# Altium schematic symbol library 1MaxSch.SchLib: 129 symbols
Pins are listed as number, name and electrical type; pins without a type are passive.

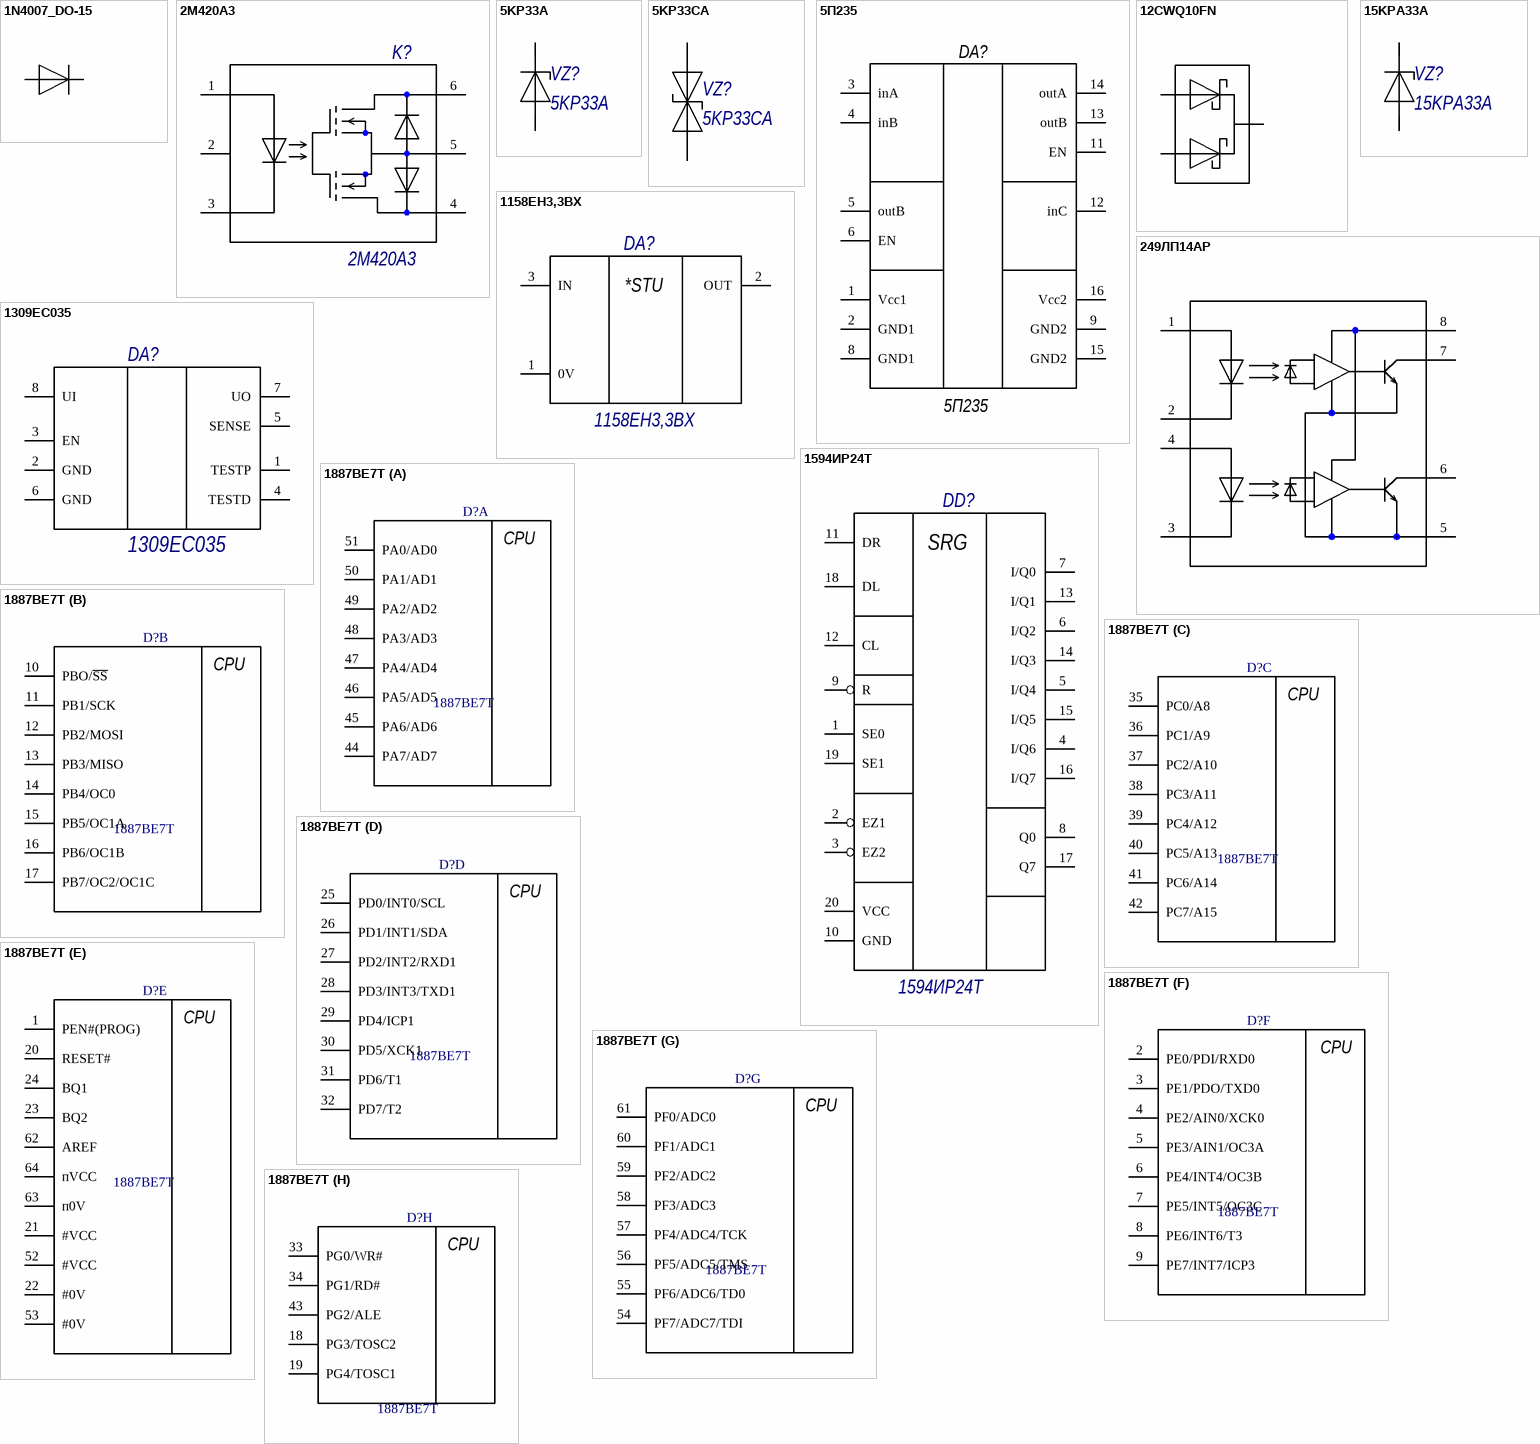
[diagram p0: symbols 1N4007_DO-15 to 1887ВЕ7Т]

## 1N4007_DO-15
designator VD?
1N4007; Alias: *
footprint DO-15
pins: 1, 2

## 2M420A3
designator K?
Оптореле 2M420A3; Manufacturer: Протон-Орел; Voltage: 90В; Current: 5А; Note: АЕЯР.432170.564 ТУ; Alias: *
footprint 2М420А3 (Герметичное МОП-реле 90В/5А)
pins: 1, 2, 3, 4, 5, 6

## 5KP33A
designator VZ?
TVS Диод однонаправленный P600B; Voltage: 36,9...40,4; Alias: *
footprint P600 (TVS_DIODE_P600B)
pins: 1, 2

## 5KP33CA
designator VZ?
TVS Диод двунаправленный P600B; Tolerance: 5%; Alias: *
footprint P600BI (TVS_DIODE_P600B)
pins: 1, 2

## 5П235
designator DA?
изолятор интерфейсов; Alias: *
footprint 4112.16-1
pins: 1 Vcc1, 2 GND1, 3 inA, 4 inB, 5 outB, 6 EN, 8 GND1, 9 GND2, 11 EN, 12 inC, 13 outB, 14 outA, 15 GND2, 16 Vcc2

## 12CWQ10FN
designator VD?  (value not drawn)
Alias: *
footprint DPAK
pins: 1, 3, 4

## 15KPA33A
designator VZ?
TVS Диод однонаправленный P600B; Alias: *
footprint P600 (TVS_DIODE_P600B)
pins: 1, 2

## 249ЛП14АР
designator DA?
многоканальные оптроны; Alias: *
footprint 249ЛП14АР (многоканальные оптроны)
pins: 1, 2, 3, 4, 5 OV, 6, 7, 8 Vcc

## 1158ЕН3,3ВХ
designator DA?
Линейные стабилизаторы с фиксированным выходным напряжением / положительной полярностиаеяр.431420.773 тУ; Alias: *
footprint КТ-93-1
pins: 1 0V, 2 OUT, 3 IN
text: *STU

## 1309EC035
designator DA?
Alias: *
footprint H02.8-1В
pins: 1 TESTP, 2 GND, 3 EN, 4 TESTD, 5 SENSE, 6 GND, 7 UO, 8 UI

## 1594ИР24Т
designator DD?
Восьмиразрядный двунаправленный сдвиговый регистр с / параллельным вводом-выводом, последовательным вводом / информации, асинхронным сбросом и тремя состояниями на / выходе; Alias: *
footprint 4153.20-6_SOW20 (Регистр сдвига)
pins: 1 SE0, 2 EZ1, 3 EZ2, 4 I/Q6, 5 I/Q4, 6 I/Q2, 7 I/Q0, 8 Q0, 9 R, 10 GND, 11 DR, 12 CL, 13 I/Q1, 14 I/Q3, 15 I/Q5, 16 I/Q7, 17 Q7, 18 DL, 19 SE1, 20 VCC
text: SRG

## 1887ВЕ7Т
designator D?
Alias: *
footprint 4203.64-2/CQFP64
part A pins: 44 PA7/AD7, 45 PA6/AD6, 46 PA5/AD5, 47 PA4/AD4, 48 PA3/AD3, 49 PA2/AD2, 50 PA1/AD1, 51 PA0/AD0
part B pins: 10 PBO/~{SS}, 11 PB1/SCK, 12 PB2/MOSI, 13 PB3/MISO, 14 PB4/OC0, 15 PB5/OC1A, 16 PB6/OC1B, 17 PB7/OC2/OC1C
part C pins: 35 PC0/A8, 36 PC1/A9, 37 PC2/A10, 38 PC3/A11, 39 PC4/A12, 40 PC5/A13, 41 PC6/A14, 42 PC7/A15
part D pins: 25 PD0/INT0/SCL, 26 PD1/INT1/SDA, 27 PD2/INT2/RXD1, 28 PD3/INT3/TXD1, 29 PD4/ICP1, 30 PD5/XCK1, 31 PD6/T1, 32 PD7/T2
part E pins: 1 PEN#(PROG), 20 RESET#, 21 #VCC, 22 #0V, 23 BQ2, 24 BQ1, 52 #VCC, 53 #0V, 62 AREF, 63 п0V, 64 пVCC
part F pins: 2 PE0/PDI/RXD0, 3 PE1/PDO/TXD0, 4 PE2/AIN0/XCK0, 5 PE3/AIN1/OC3A, 6 PE4/INT4/OC3B, 7 PE5/INT5/OC3C, 8 PE6/INT6/T3, 9 PE7/INT7/ICP3
part G pins: 54 PF7/ADC7/TDI, 55 PF6/ADC6/TD0, 56 PF5/ADC5/TMS, 57 PF4/ADC4/TCK, 58 PF3/ADC3, 59 PF2/ADC2, 60 PF1/ADC1, 61 PF0/ADC0
part H pins: 18 PG3/TOSC2, 19 PG4/TOSC1, 33 PG0/WR#, 34 PG1/RD#, 43 PG2/ALE
part A text: CPU
part B text: CPU
part C text: CPU
part D text: CPU
part E text: CPU
part F text: CPU
part G text: CPU
part H text: CPU

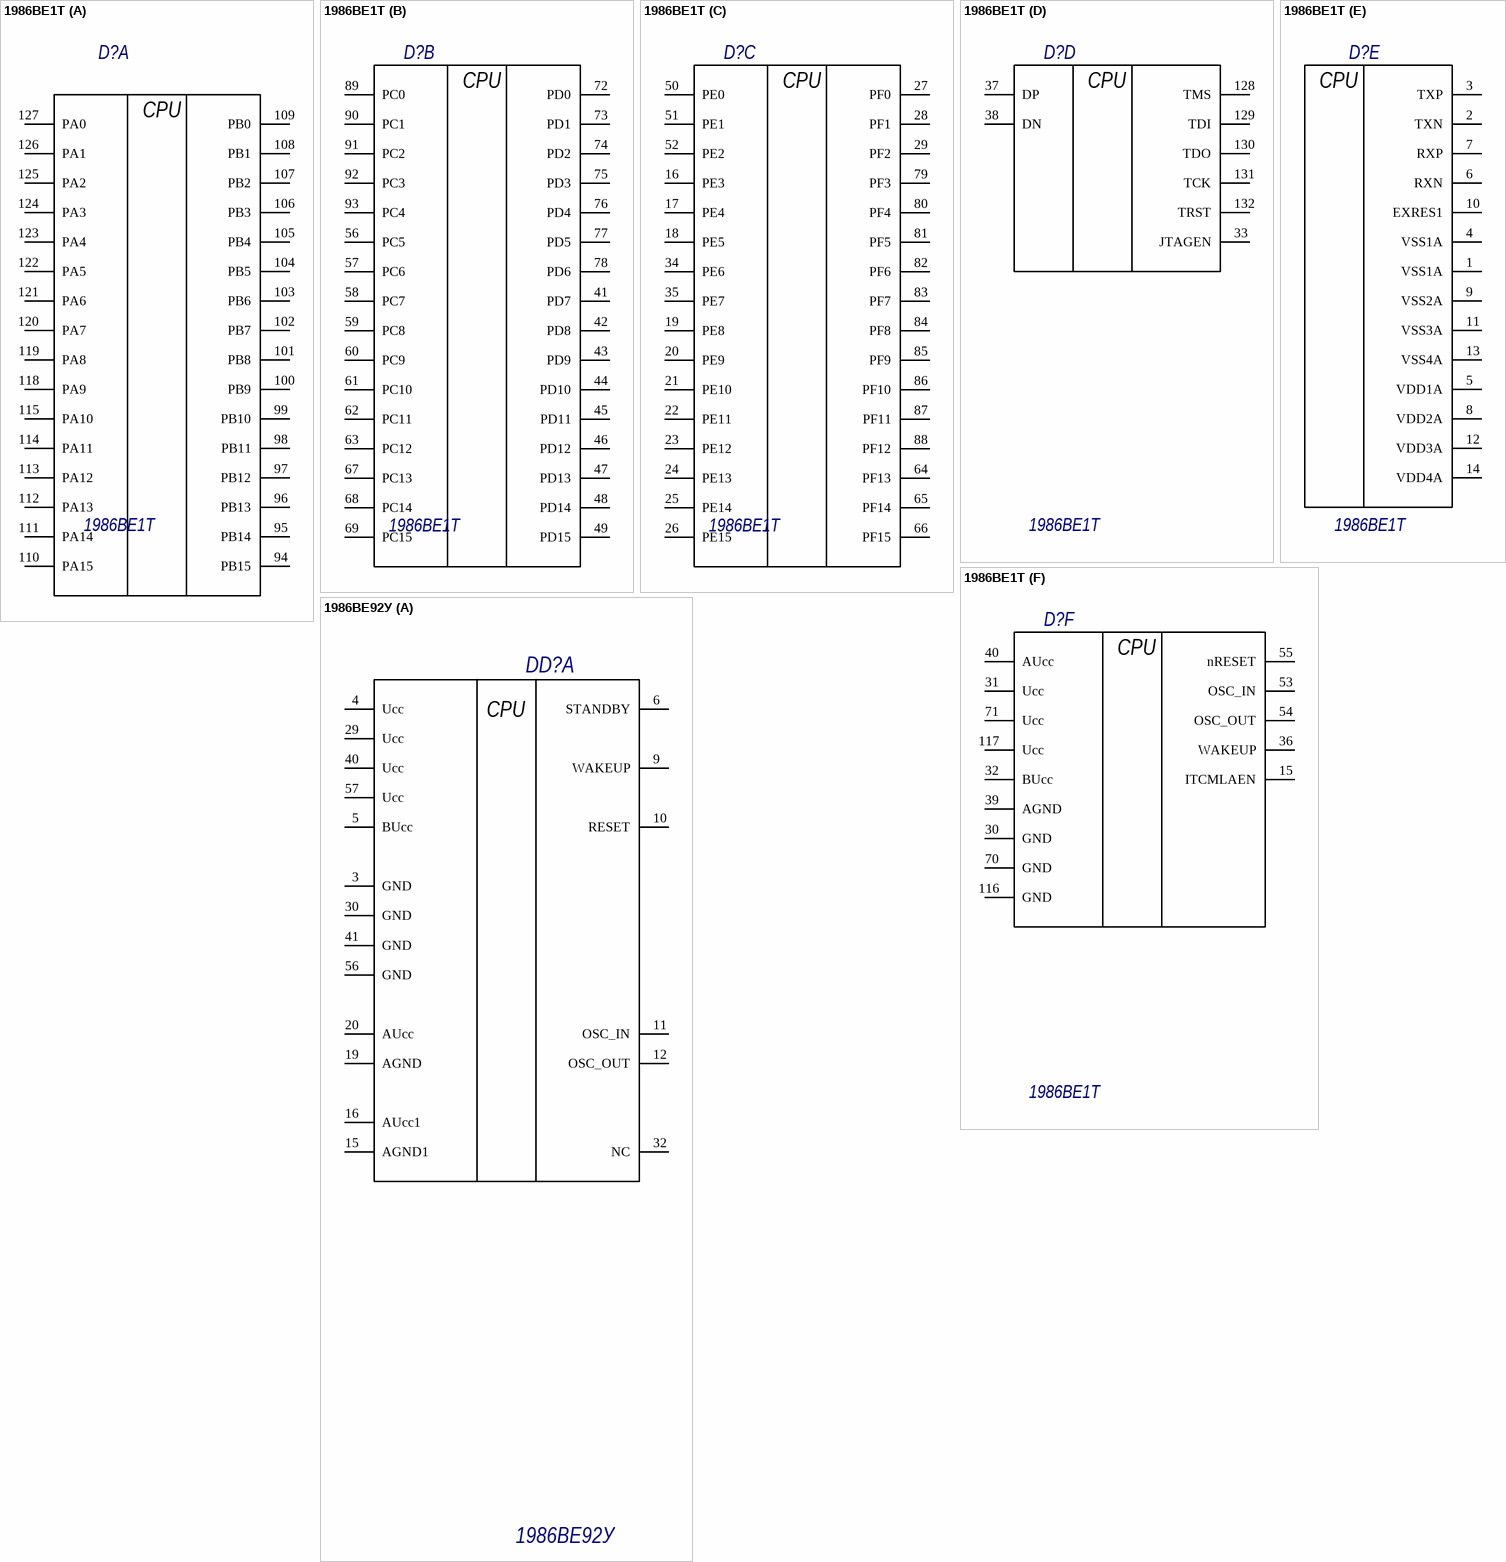
[diagram p1: symbols 1986ВЕ1Т to 1986ВЕ92У]

## 1986ВЕ1Т
designator D?
Микроконтроллер; Alias: *
footprint 4229.132-3
part A pins: 94 PB15, 95 PB14, 96 PB13, 97 PB12, 98 PB11, 99 PB10, 100 PB9, 101 PB8, 102 PB7, 103 PB6, 104 PB5, 105 PB4, 106 PB3, 107 PB2, 108 PB1, 109 PB0, 110 PA15, 111 PA14, 112 PA13, 113 PA12, 114 PA11, 115 PA10, 118 PA9, 119 PA8, 120 PA7, 121 PA6, 122 PA5, 123 PA4, 124 PA3, 125 PA2, 126 PA1, 127 PA0
part B pins: 41 PD7, 42 PD8, 43 PD9, 44 PD10, 45 PD11, 46 PD12, 47 PD13, 48 PD14, 49 PD15, 56 PC5, 57 PC6, 58 PC7, 59 PC8, 60 PC9, 61 PC10, 62 PC11, 63 PC12, 67 PC13, 68 PC14, 69 PC15, 72 PD0, 73 PD1, 74 PD2, 75 PD3, 76 PD4, 77 PD5, 78 PD6, 89 PC0, 90 PC1, 91 PC2, 92 PC3, 93 PC4
part C pins: 16 PE3, 17 PE4, 18 PE5, 19 PE8, 20 PE9, 21 PE10, 22 PE11, 23 PE12, 24 PE13, 25 PE14, 26 PE15, 27 PF0, 28 PF1, 29 PF2, 34 PE6, 35 PE7, 50 PE0, 51 PE1, 52 PE2, 64 PF13, 65 PF14, 66 PF15, 79 PF3, 80 PF4, 81 PF5, 82 PF6, 83 PF7, 84 PF8, 85 PF9, 86 PF10, 87 PF11, 88 PF12
part D pins: 33 JTAGEN, 37 DP, 38 DN, 128 TMS, 129 TDI, 130 TDO, 131 TCK, 132 TRST
part E pins: 1 VSS1A, 2 TXN, 3 TXP, 4 VSS1A, 5 VDD1A, 6 RXN, 7 RXP, 8 VDD2A, 9 VSS2A, 10 EXRES1, 11 VSS3A, 12 VDD3A, 13 VSS4A, 14 VDD4A
part F pins: 15 ITCMLAEN, 30 GND, 31 Ucc, 32 BUcc, 36 WAKEUP, 39 AGND, 40 AUcc, 53 OSC_IN, 54 OSC_OUT, 55 nRESET, 70 GND, 71 Ucc, 116 GND, 117 Ucc
part A text: CPU
part B text: CPU
part C text: CPU
part D text: CPU
part E text: CPU
part F text: CPU

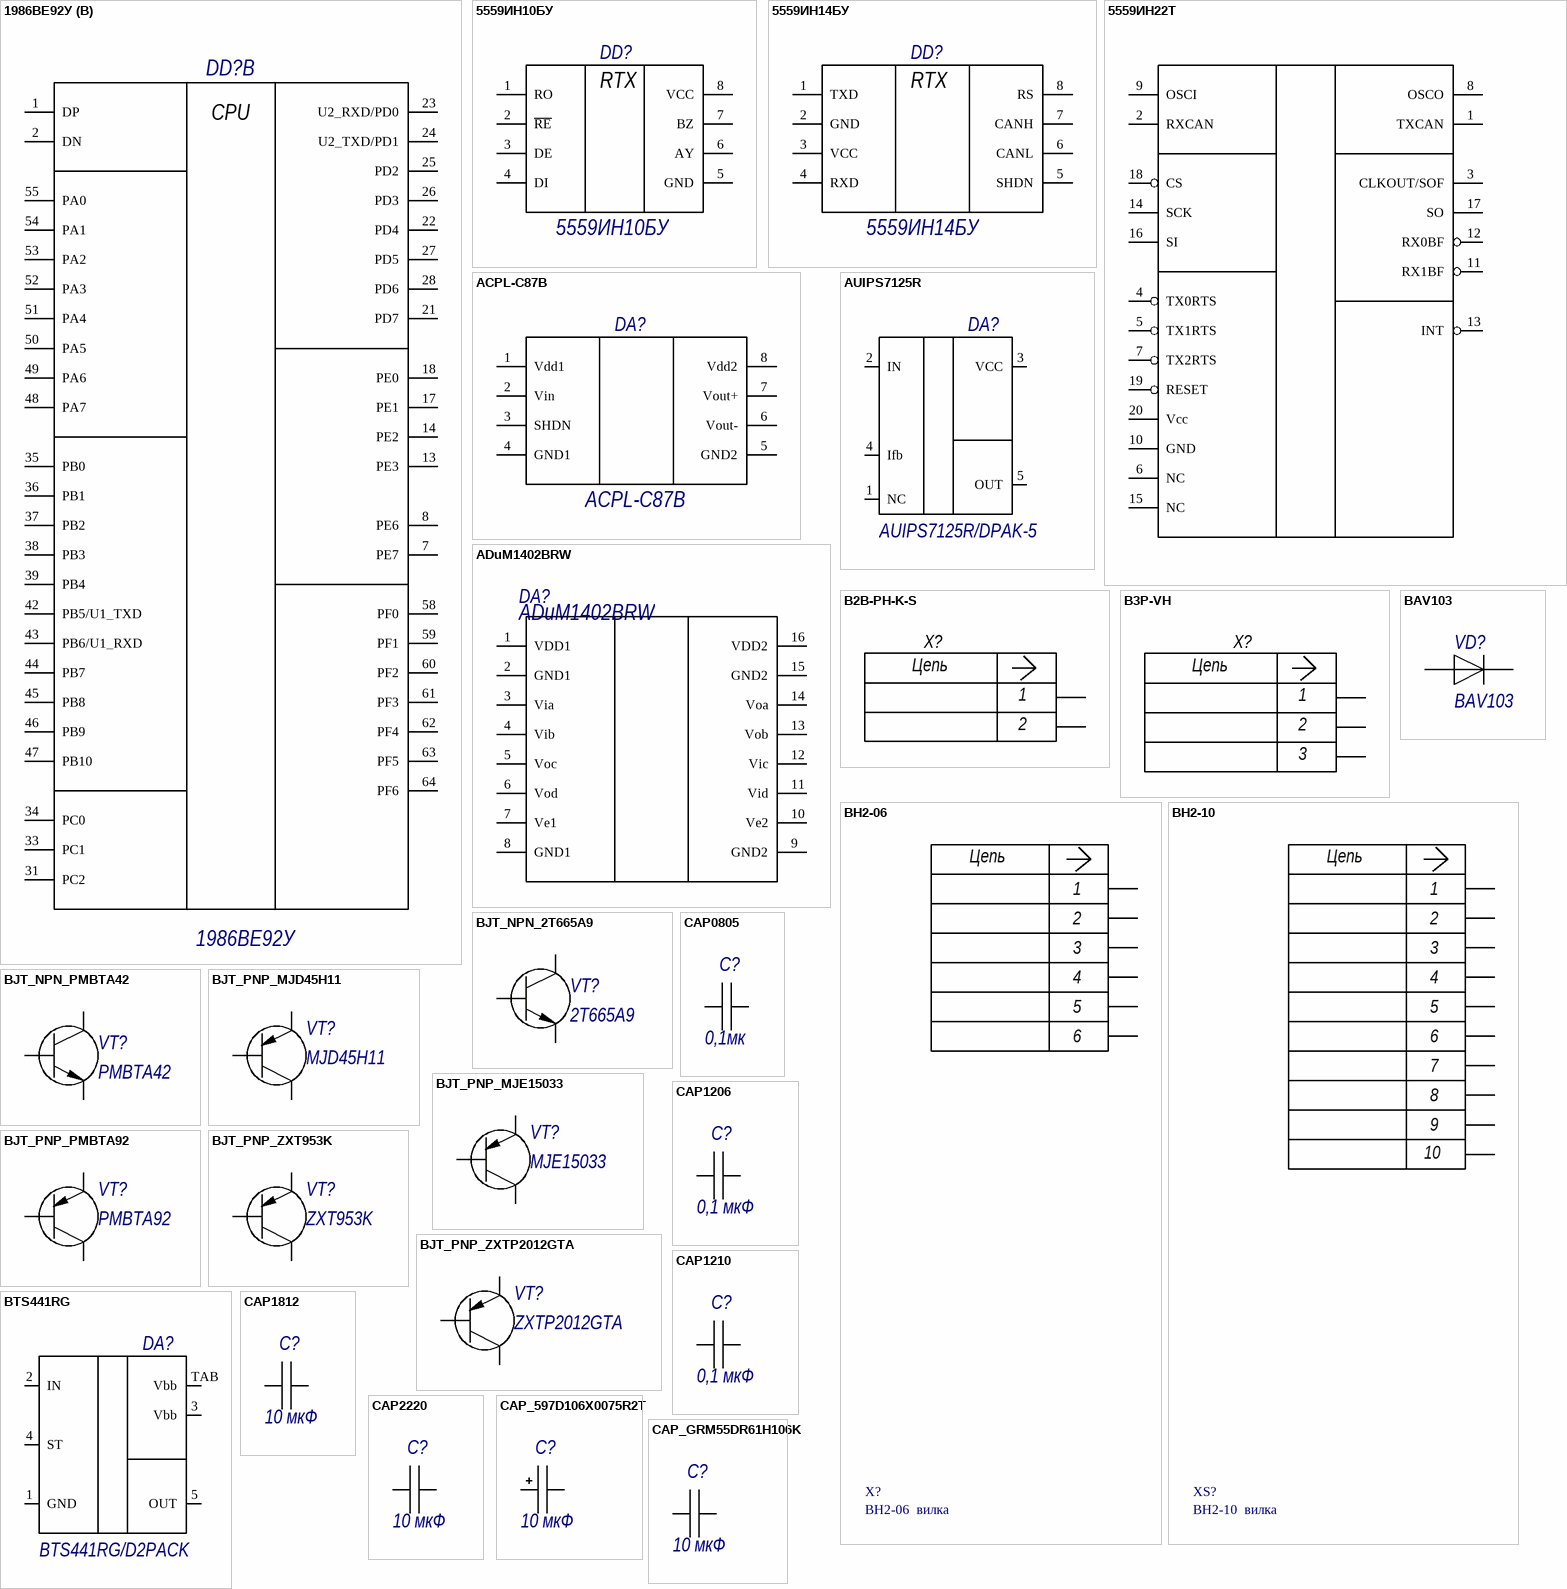
[diagram p2: symbols 1986ВЕ92У to CAP_GRM55DR61H106K]

## 1986ВЕ92У
designator DD?
Alias: *
footprint H18.64-1В
part A pins: 3 GND, 4 Ucc, 5 BUcc, 6 STANDBY, 9 WAKEUP, 10 RESET, 11 OSC_IN, 12 OSC_OUT, 15 AGND1, 16 AUcc1, 19 AGND, 20 AUcc, 29 Ucc, 30 GND, 32 NC, 40 Ucc, 41 GND, 56 GND, 57 Ucc
part B pins: 1 DP, 2 DN, 7 PE7, 8 PE6, 13 PE3, 14 PE2, 17 PE1, 18 PE0, 21 PD7, 22 PD4, 23 U2_RXD/PD0, 24 U2_TXD/PD1, 25 PD2, 26 PD3, 27 PD5, 28 PD6, 31 PC2, 33 PC1, 34 PC0, 35 PB0, 36 PB1, 37 PB2, 38 PB3, 39 PB4, 42 PB5/U1_TXD, 43 PB6/U1_RXD, 44 PB7, 45 PB8, 46 PB9, 47 PB10, 48 PA7, 49 PA6, 50 PA5, 51 PA4, 52 PA3, 53 PA2, 54 PA1, 55 PA0, 58 PF0, 59 PF1, 60 PF2, 61 PF3, 62 PF4, 63 PF5, 64 PF6
part A text: CPU
part B text: CPU

## 5559ИН10БУ
designator DD?
Alias: *
footprint SO8 (SOIC, 8-Leads, Body 4.9x3.9mm, Pitch 1.27mm, IPC Medium Density)
footprint H02.8-1В
pins: 1 RO, 2 ~{RE}, 3 DE, 4 DI, 5 GND, 6 AY, 7 BZ, 8 VCC
text: RTX

## 5559ИН14БУ
designator DD?
Alias: *
footprint SO8 (SOIC, 8-Leads, Body 4.9x3.9mm, Pitch 1.27mm, IPC Medium Density)
footprint H02.8-1В
pins: 1 TXD, 2 GND, 3 VCC, 4 RXD, 5 SHDN, 6 CANL, 7 CANH, 8 RS
text: RTX

## 5559ИН22Т
designator DA?
Alias: *
footprint 5559ИН22Т (Автономный CAN - контроллер)
pins: 1 TXCAN, 2 RXCAN, 3 CLKOUT/SOF, 4 TX0RTS, 5 TX1RTS, 6 NC, 7 TX2RTS, 8 OSCO, 9 OSCI, 10 GND, 11 RX1BF, 12 RX0BF, 13 INT, 14 SCK, 15 NC, 16 SI, 17 SO, 18 CS, 19 RESET, 20 Vcc

## ACPL-C87B
designator DA?
Alias: *
footprint SSO-8
pins: 1 Vdd1, 2 Vin, 3 SHDN, 4 GND1, 5 GND2, 6 Vout-, 7 Vout+, 8 Vdd2

## ADuM1402BRW
designator DA?
Alias: *
footprint SOIC-16
pins: 1 VDD1, 2 GND1, 3 Via, 4 Vib, 5 Voc, 6 Vod, 7 Ve1, 8 GND1, 9 GND2, 10 Ve2, 11 Vid, 12 Vic, 13 Vob, 14 Voa, 15 GND2, 16 VDD2

## AUIPS7125R
designator DA?, comment AUIPS7125R/DPAK-5
CURRENT SENSE HIGH SIDE SWITCH 65V 3.8A; Manufacturer: IRF/INFINION; Power: 2.5Вт; Value: 0.03 Ом; Voltage: 65В; Current: 3.8А; Alias: *; ComponentLink3Description: New link; ComponentLink3URL: https://www.infineon.com/dgdl/auips7125.pdf?fileId=5546d462533600a4015355a7d96a132a
footprint TO-252-4L (D-PAK, 5-Pads, Body 6,21x6,72mm (max), IPC Medium Density)
pins: 1 NC, 2 IN, 3 VCC, 4 Ifb, 5 OUT

## B2B-PH-K-S
designator X?
B2B-PH-K-S; Alias: *
footprint B2B-PH-K-S
pins: 1, 2
text: Цепь

## B3P-VH
designator X?  (value not drawn)
Alias: *
footprint B3P-VH
pins: 1, 2, 3
text: Цепь

## BAV103
designator VD?
Диод 200 В, 200 мА, 1.25 В, 50 нс [SOD-80 / Mini-MELF]; Tolerance: 5%; Alias: *
footprint SOD-80
pins: 1, 2

## BH2-06
designator X?, comment BH2-06  вилка
BH2-06  вилка   шаг 2; Alias: *
footprint BH2-06
pins: 1, 2, 3, 4, 5, 6
text: Цепь

## BH2-10
designator XS?, comment BH2-10  вилка
BH2-10  вилка шаг 2; Alias: *
footprint BH2-10
pins: 1, 2, 3, 4, 5, 6, 7, 8, 9, 10
text: Цепь

## BJT_NPN_2Т665А9
designator VT?, comment 2Т665А9
Биполярный транзистор NPN, 80 В, 1 Вт, 1 А, 40 hFE [SOT-89]; Manufacturer: Кремний эл; Power: 1Вт; Voltage: 80В; Current: 1А; Alias: *
footprint SOT-89-150P410X160-3N (SOT89, 3-Leads, Body 4,50x2,45mm, Pitch 1,50mm, Lead Span 4,1mm, IPC Medium Density)
pins: 1, 2, 3

## BJT_NPN_PMBTA42
designator VT?, comment PMBTA42
Биполярный транзистор NPN, 300 В, 250 мВт, 100 мА, 40 hFE [SOT-23]; Manufacturer: NXP/Neperia; Power: 0.25Вт; Voltage: 300В; Current: 0.1А; Alias: *
footprint SOT-23-3
pins: 1, 2, 3

## BJT_PNP_MJD45H11
designator VT?, comment MJD45H11
Manufacturer: ON SEMI; Power: 2Вт; Voltage: 250В; Current: 8А; Alias: *
footprint TO-252_DPAK (Complementary PowerTransistors)
pins: 1 B, 3 E, 4 C

## BJT_PNP_MJE15033
designator VT?, comment MJE15033
Manufacturer: ON SEMI; Power: 2Вт; Voltage: 250В; Current: 8А; Alias: *
footprint TO-220 (TO220)
pins: 1 B, 2 C, 3 E

## BJT_PNP_PMBTA92
designator VT?, comment PMBTA92
Биполярный транзистор PNP, 300 В, 100 мА, 0.25 Вт SOT-23 (TO-236AB),; Manufacturer: NXP/Neperia; Power: 0.25Вт; Voltage: 300В; Current: 0.1А; Alias: *
footprint SOT-23-3
pins: 1, 2, 3

## BJT_PNP_ZXT953K
designator VT?, comment ZXT953K
100V 5A PNP LOW SATURATION MEDIUM POWER TRANSISTOR; Manufacturer: Diodes; Power: 2Вт; Voltage: 100В; Current: 5А; Note: LOW SATURATION; Alias: *
footprint TO-252_DPAK (Complementary PowerTransistors)
pins: 1 B, 3 E, 4 C

## BJT_PNP_ZXTP2012GTA
designator VT?, comment ZXTP2012GTA
60V 5.5A PNP MEDIUM POWER LOW SATURATION TRANSISTOR IN SOT223; Manufacturer: DIODES; Power: 1.6Вт; Voltage: 60В; Current: 5.5А; Note: LOW SAT; Alias: *
footprint SOT-223 (SOT223, 4-Leads, Body 6,50x7,00mm (avg), Pitch 2,30mm, IPC Medium Density)
pins: 1 B, 2 C, 3 E

## BTS441RG
designator DA?, comment BTS441RG/D2PACK
BTS441RG; Tolerance: 5%; Alias: *
footprint D2PAK-5
pins: 1 GND, 2 IN, 3 Vbb, 4 ST, 5 OUT, TAB Vbb

## CAP0805
designator C?, comment 0,1мк
Керамический ЧИП конденсатор 0.1 мкФ X7R 50В 10% 0805, GRM21BR71H104K; Tolerance: 10%; Alias: *
footprint cap0805
pins: 1, 2

## CAP1206
designator C?, comment 0,1 мкФ
Керамический ЧИП конденсатор 0.1 мкФ X7R 50В 10% 1206, GRM319R71H104K; Tolerance: 10%; Alias: *
footprint cap1206
pins: 1, 2

## CAP1210
designator C?, comment 0,1 мкФ
Керамический ЧИП конденсатор 0.1 мкФ X7R 250В 10% 1210, GRM32DR72E104K; Tolerance: 10%; Alias: *
footprint cap1210
pins: 1, 2

## CAP1812
designator C?, comment 10 мкФ
Керамический ЧИП конденсатор 0.1 мкФ X7R 250В 10% 1812, GRM43; Tolerance: 10%; Alias: *
footprint CAP1812
pins: 1, 2

## CAP2220
designator C?, comment 10 мкФ
Керамический ЧИП конденсатор 10мкФ X5R 50В 10% 2220, GRM55DR61H106K; Tolerance: 10%; Alias: *
footprint CAP2220 (Chip Monolithic Ceramic Capacitors general application 2220)
pins: 1, 2

## CAP_597D106X0075R2T
designator C?, comment 10 мкФ
Танталовый конденсатор 10мкФ  75В 10% , 597D106X0075R2T VISHAY; Tolerance: 10%; Alias: *
footprint CAP_TANT-597D_CASE_R
pins: 1, 2

## CAP_GRM55DR61H106K
designator C?, comment 10 мкФ
Керамический ЧИП конденсатор 10мкФ X5R 50В 10% 2220, GRM55DR61H106K; Tolerance: 10%; Alias: *
footprint CAP2220 (Chip Monolithic Ceramic Capacitors general application 2220)
pins: 1, 2

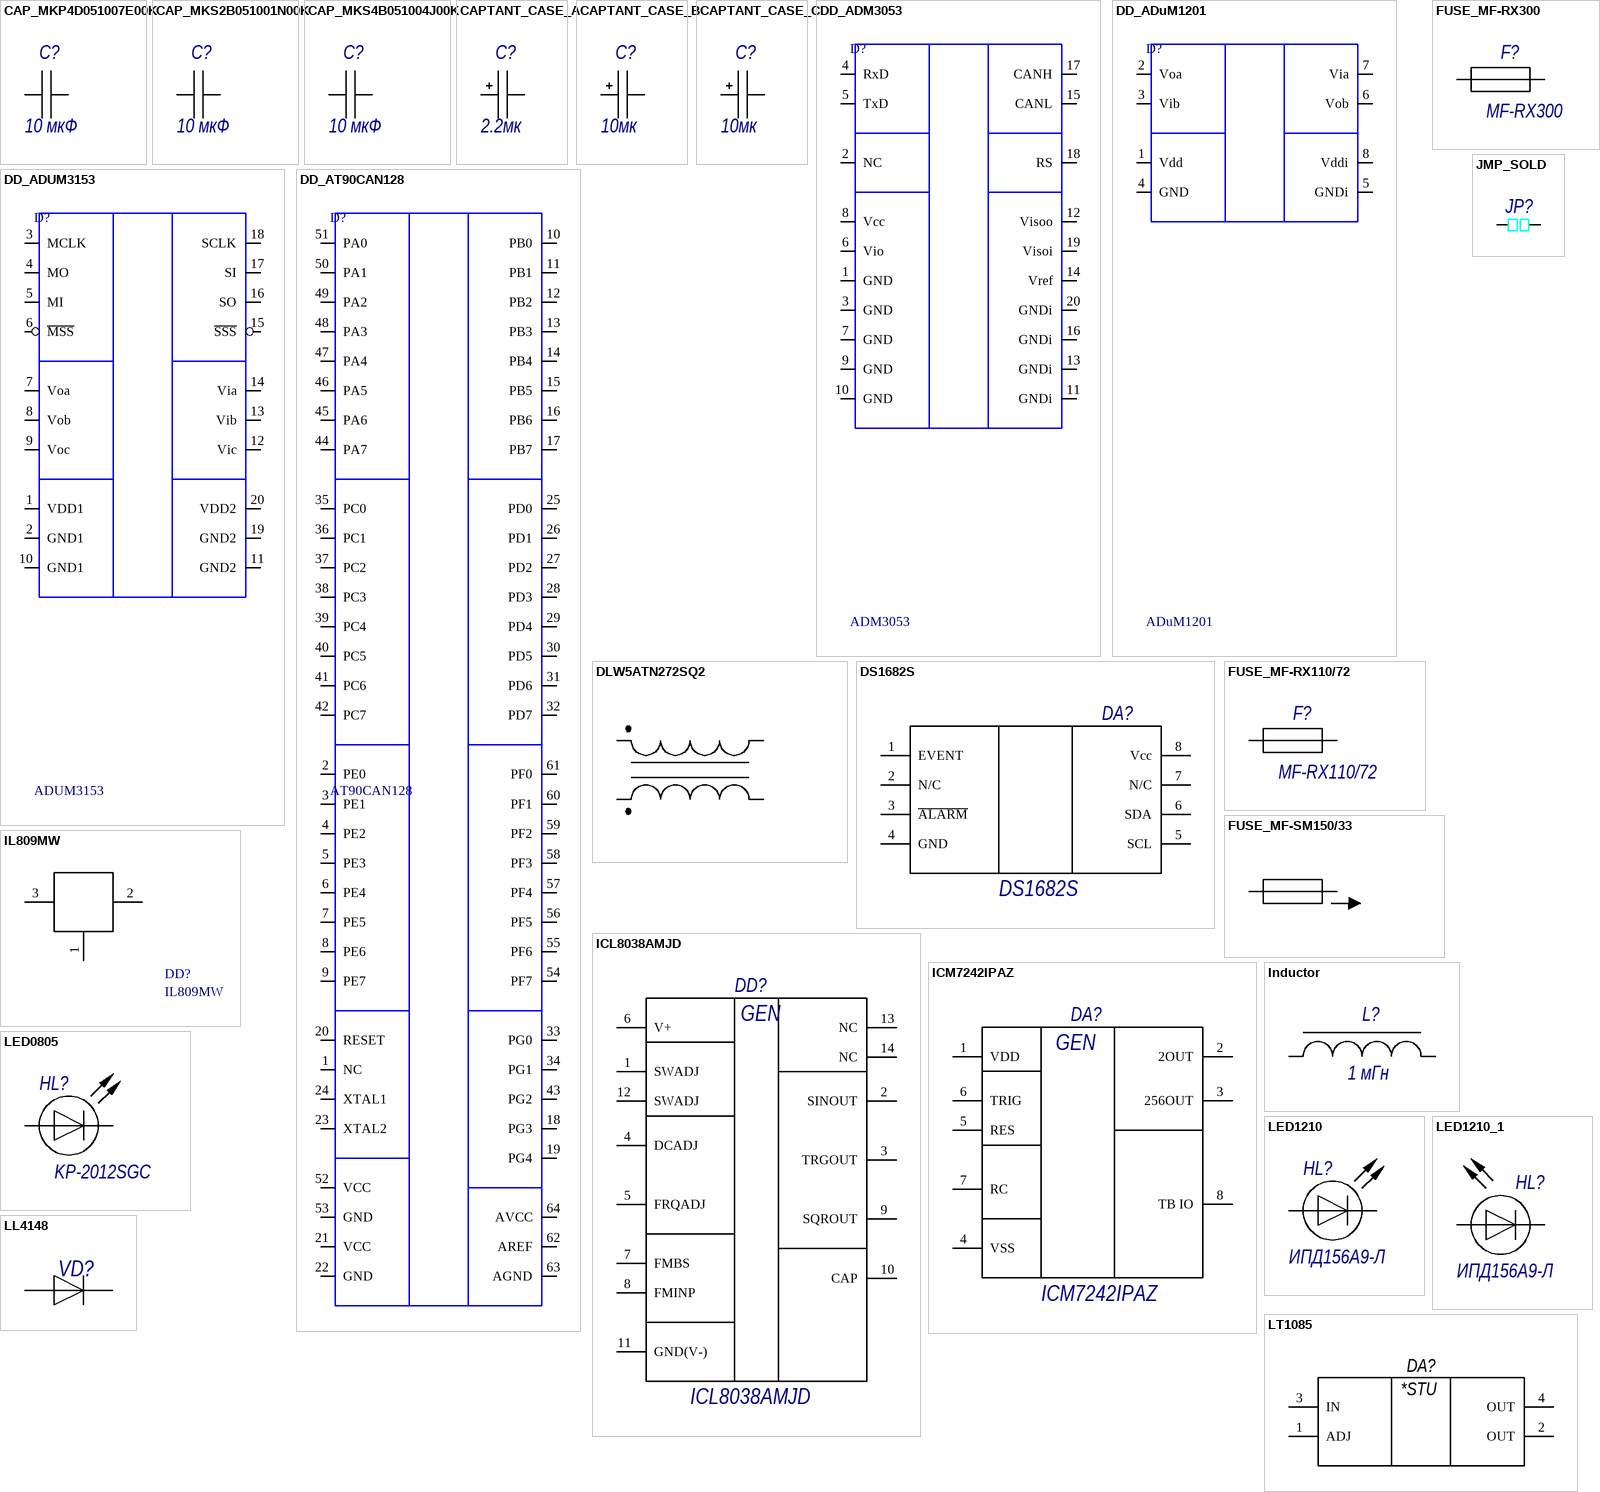
[diagram p3: symbols CAP_MKP4D051007E00K to LT1085]

## CAP_MKP4D051007E00K
designator C?, comment 10 мкФ
Пленочный конденсатор 10мкФ MKP 100В 10% PCM=37.5мм, MKP4D051007E00K WIMA; Tolerance: 5%; Alias: *
footprint CAP_MKP4_PCM37.5 (FILM CAP WIMA)
pins: 1, 2

## CAP_MKS2B051001N00K
designator C?, comment 10 мкФ
Пленочный конденсатор 10мкФ MKS 50В 10% PCM=5мм, MKS2B051001N00K WIMA; Tolerance: 5%; Alias: *
pins: 1, 2

## CAP_MKS4B051004J00K
designator C?, comment 10 мкФ
Пленочный конденсатор 10мкФ MKS 50В 10% PCM=15мм, MKS4B051004J00K WIMA; Tolerance: 5%; Alias: *
footprint CAP_MKS4_PCM15 (MKS4B051004J00K)
pins: 1, 2

## CAPTANT_CASE_A
designator C?, comment 2.2мк
Танталовый конденсатор 2.2мкФ  16В 10% КОНДЕНСАТОР К53-68 "A" - 16В - 2.2мкФ ±10% АЖЯР.673546.007 ТУ; Manufacturer: ОАО "ЭЛЕКОНД"; Note: АЖЯР.673546.014 ТУ; Tolerance: 10%; Alias: *
footprint CAPTANT_CASE-A ("J" вывод 3216 (1206))
pins: 1, 2

## CAPTANT_CASE_B
designator C?, comment 10мк
Танталовый конденсатор 10мкФ  16В 10% КОНДЕНСАТОР К53-68 "B" - 16В - 10мкФ ±10% АЖЯР.673546.007 ТУ; Manufacturer: ОАО "ЭЛЕКОНД"; Note: АЖЯР.673546.014 ТУ; Tolerance: 10%; Alias: *
footprint CAPMP3528X21N (Molded Capacitor, 2-Leads, Body 3,50x2,80mm, IPC Medium Density)
pins: 1, 2

## CAPTANT_CASE_C
designator C?, comment 10мк
Танталовый конденсатор 10мкФ  25В 10% КОНДЕНСАТОР К53-68 "C" - 25В - 10мкФ ±10% АЖЯР.673546.007 ТУ; Manufacturer: ОАО "ЭЛЕКОНД"; Note: АЖЯР.673546.014 ТУ; Tolerance: 10%; Alias: *
footprint CAPTANT_CASE-C ("J" вывод 6032 (2312))
pins: 1, 2

## DD_ADM3053
designator D?, comment ADM3053
CAN Драйвер; Alias: *
footprint SOIC-20
pins: 1 GND, 2 NC, 3 GND, 4 RxD, 5 TxD, 6 Vio, 7 GND, 8 Vcc, 9 GND, 10 GND, 11 GNDi, 12 Visoo, 13 GNDi, 14 Vref, 15 CANL, 16 GNDi, 17 CANH, 18 RS, 19 Visoi, 20 GNDi

## DD_ADuM1201
designator D?, comment ADuM1201
Изолятор; Alias: *
footprint SOIC-8
pins: 1 Vdd, 2 Voa, 3 Vib, 4 GND, 5 GNDi, 6 Vob, 7 Via, 8 Vddi

## DD_ADUM3153
designator D?, comment ADUM3153
изолятор; Alias: *
footprint SOW20
pins: 1 VDD1, 2 GND1, 3 MCLK, 4 MO, 5 MI, 6 ~{MSS}, 7 Voa, 8 Vob, 9 Voc, 10 GND1, 11 GND2, 12 Vic, 13 Vib, 14 Via, 15 ~{SSS}, 16 SO, 17 SI, 18 SCLK, 19 GND2, 20 VDD2

## DD_AT90CAN128
designator D?, comment AT90CAN128
Микроконтроллер; Alias: *
footprint 4203.64-2/CQFP64
footprint TQFP_64
pins: 1 NC, 2 PE0, 3 PE1, 4 PE2, 5 PE3, 6 PE4, 7 PE5, 8 PE6, 9 PE7, 10 PB0, 11 PB1, 12 PB2, 13 PB3, 14 PB4, 15 PB5, 16 PB6, 17 PB7, 18 PG3, 19 PG4, 20 RESET, 21 VCC, 22 GND, 23 XTAL2, 24 XTAL1, 25 PD0, 26 PD1, 27 PD2, 28 PD3, 29 PD4, 30 PD5, 31 PD6, 32 PD7, 33 PG0, 34 PG1, 35 PC0, 36 PC1, 37 PC2, 38 PC3, 39 PC4, 40 PC5, 41 PC6, 42 PC7, 43 PG2, 44 PA7, 45 PA6, 46 PA5, 47 PA4, 48 PA3, 49 PA2, 50 PA1, 51 PA0, 52 VCC, 53 GND, 54 PF7, 55 PF6, 56 PF5, 57 PF4, 58 PF3, 59 PF2, 60 PF1, 61 PF0, 62 AREF, 63 AGND, 64 AVCC

## DLW5ATN272SQ2
designator L?  (value not drawn)
Фильтр синфазный 2,7 кОм - 1А; Type: DLW5ATN272SQ2; Alias: *
footprint DLW5AT
pins: 1, 2, 3, 4

## DS1682S
designator DA?
Tolerance: 5%; Alias: *
footprint SOIC-8
pins: 1 EVENT, 2 N/C, 3 ~{ALARM}, 4 GND, 5 SCL, 6 SDA, 7 N/C, 8 Vcc

## FUSE_MF-RX110/72
designator F?, comment MF-RX110/72
PTC FUSE MF-RX110/72; Tolerance: 5%; Alias: *
footprint FUSE_MF-RX110/72
pins: 1, 2

## FUSE_MF-RX300
designator F?, comment MF-RX300
PTC FUSE MF-RX300; Tolerance: 5%; Alias: *
footprint MF-RX300
pins: 1, 2

## FUSE_MF-SM150/33
designator FU?
MF-SM150/33; Alias: *
footprint MF-150
pins: 1, 2

## ICL8038AMJD
designator DD?
Tolerance: 5%; Alias: *
footprint DIP-14
pins: 1 SWADJ, 2 SINOUT, 3 TRGOUT, 4 DCADJ, 5 FRQADJ, 6 V+, 7 FMBS, 8 FMINP, 9 SQROUT, 10 CAP, 11 GND(V-), 12 SWADJ, 13 NC, 14 NC
text: GEN

## ICM7242IPAZ
designator DA?
Tolerance: 5%; Alias: *
footprint DIP-8
pins: 1 VDD, 2 2OUT, 3 256OUT, 4 VSS, 5 RES, 6 TRIG, 7 RC, 8 TB IO
text: GEN

## IL809MW
designator DD?
supervisor; Alias: *
footprint SOT23 (SOT-23; 3 Leads; Body 3.1 x 2.5 mm)
pins: 1 GND "КД2972А", 2 ~{RS} "КД2972А", 3 Vcc "КД2972А"

## Inductor
designator L?, comment 1 мГн
Inductor; Tolerance: 5%; Alias: *
footprint INDC0805
pins: 1, 2

## JMP_SOLD
designator JP?  (value not drawn)
JUMPER SOLDERING; Tolerance: 5%; Alias: *
footprint jamper_sold
pins: 1, 2

## LED0805
designator HL?, comment KP-2012SGC
KP-2012SGC, Светодиод зеленый 0805 15мКд; Tolerance: 5%; Alias: *
footprint LED_KP-2012SGC
pins: 1, 2

## LED1210
designator HL?, comment ИПД156А9-Л
LED3528; Tolerance: 5%; Alias: *
footprint LED1210
pins: 1, 2

## LED1210_1
designator HL?, comment ИПД156А9-Л
LED3528; Tolerance: 5%; Alias: *
footprint LED1210
pins: 1, 2

## LL4148
designator VD?, comment Diode  (value not drawn)
LL4148; Alias: *
footprint MiniMELF
footprint MiniMELF (MiniMELF_LL4148)
pins: 1, 2

## LT1085
designator DA?  (value not drawn)
Alias: *
footprint D2PAK-3
pins: 1 ADJ, 2 OUT, 3 IN, 4 OUT
text: *STU

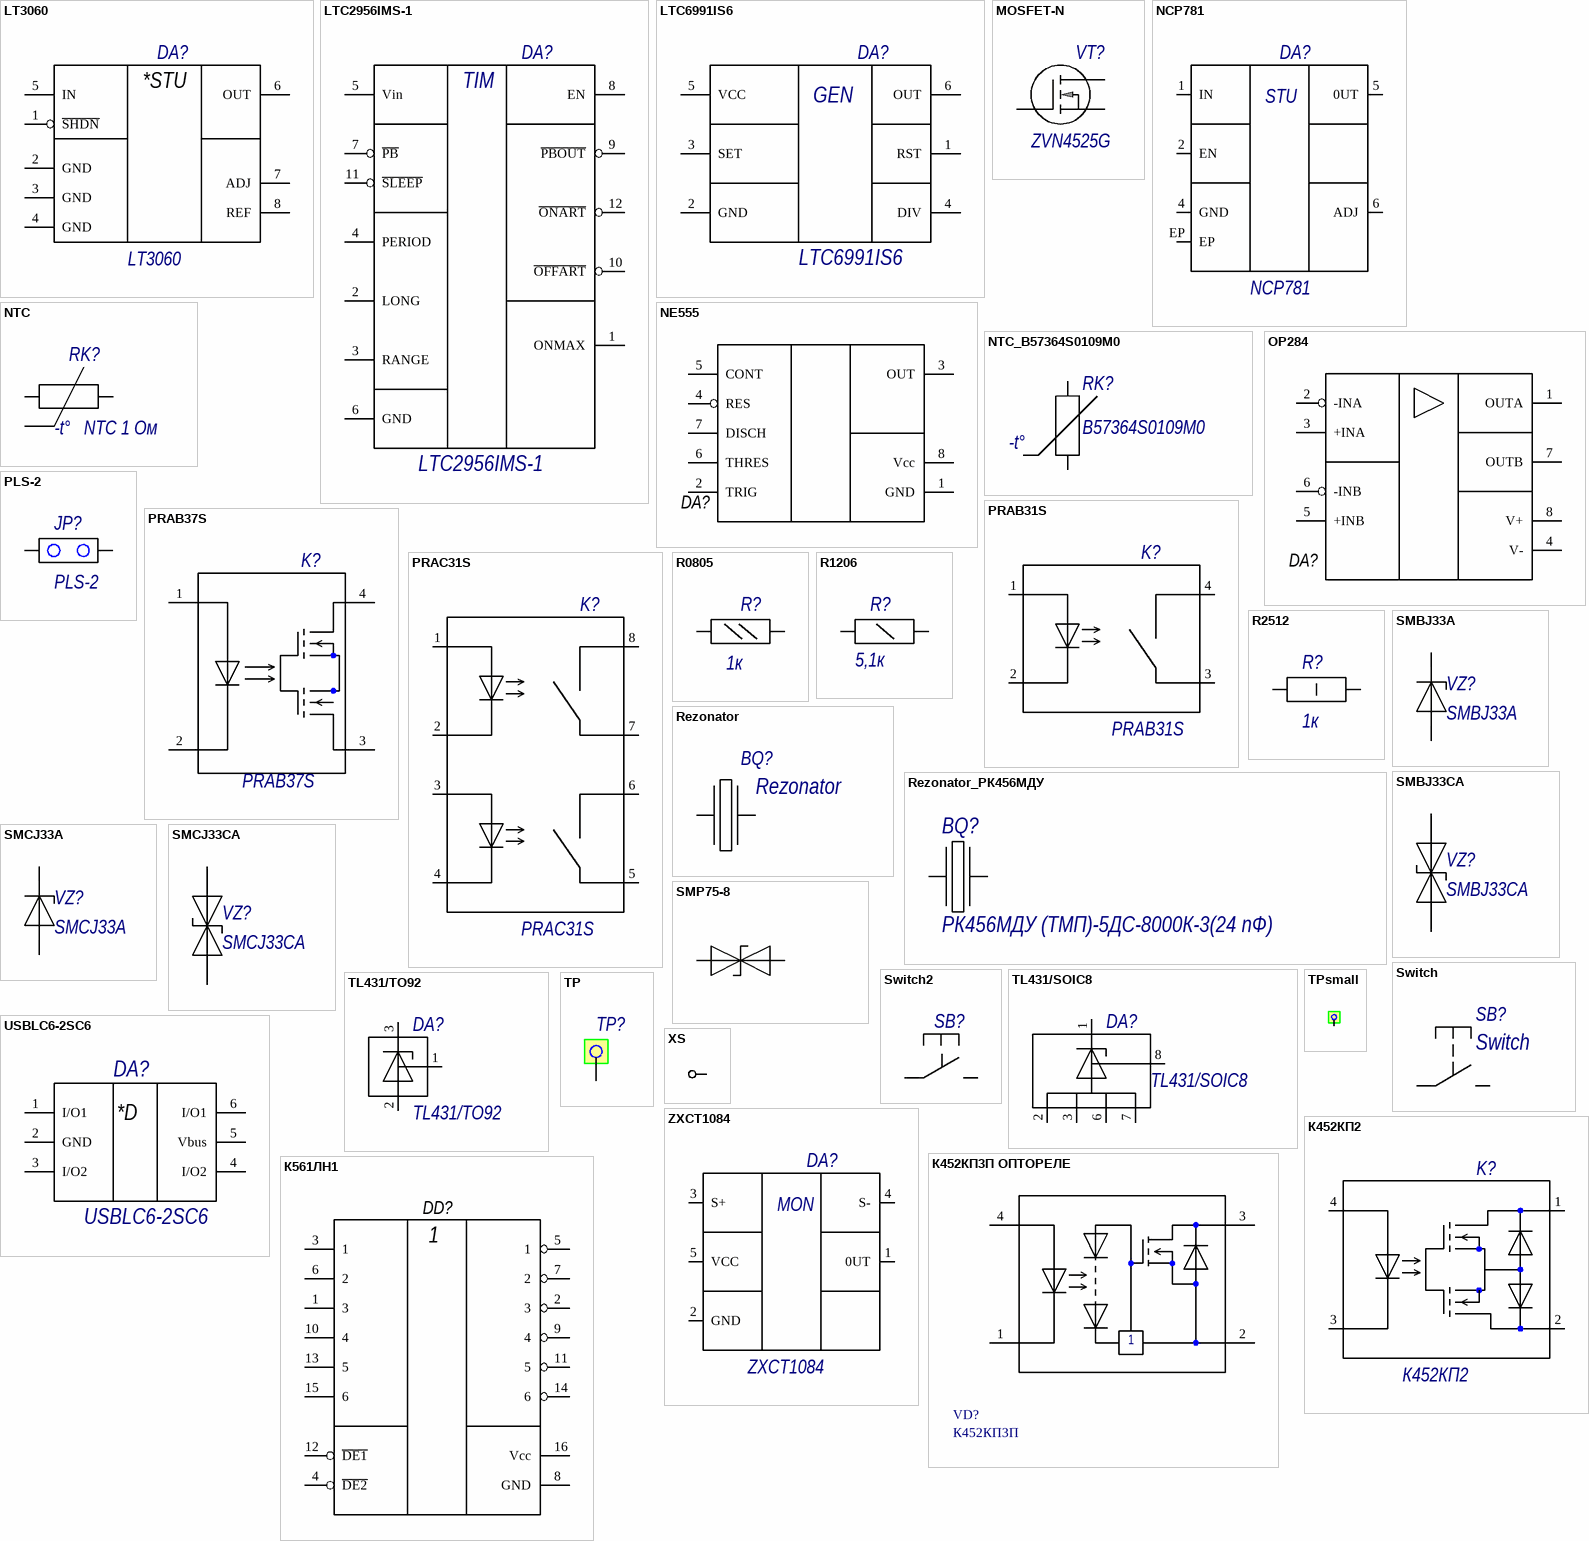
[diagram p4: symbols LT3060 to К561ЛН1]

## LT3060
designator DA?
Tolerance: 5%; Alias: *
footprint TSOT-23-8
pins: 1 ~{SHDN}, 2 GND, 3 GND, 4 GND, 5 IN, 6 OUT, 7 ADJ, 8 REF
text: *STU

## LTC2956IMS-1
designator DA?
Tolerance: 5%; Alias: *
footprint MSOP-12
pins: 1 ONMAX, 2 LONG, 3 RANGE, 4 PERIOD, 5 Vin, 6 GND, 7 ~{PB}, 8 EN, 9 ~{PBOUT}, 10 ~{OFFART}, 11 ~{SLEEP}, 12 ~{ONART}
text: TIM

## LTC6991IS6
designator DA?
Tolerance: 5%; Alias: *
footprint SOT-23-6
pins: 1 RST, 2 GND, 3 SET, 4 DIV, 5 VCC, 6 OUT
text: GEN

## MOSFET-N
designator VT?, comment ZVN4525G
Tolerance: 5%; Alias: *
footprint SOT-223 (SOT223, 4-Leads, Body 6,50x7,00mm (avg), Pitch 2,30mm, IPC Medium Density)
pins: 1, 2, 3

## NCP781
designator DA?
NCP781 DFN6 3.3 x 3.3, 0.65P; Tolerance: 5%; Alias: *
pins: 1 IN, 2 EN, 4 GND, 5 0UT, 6 ADJ, EP
text: STU

## NE555
designator DA?  (value not drawn)
Alias: *
footprint SOIC-8
pins: 1 GND, 2 TRIG, 3 OUT, 4 RES, 5 CONT, 6 THRES, 7 DISCH, 8 Vcc

## NTC
designator RK?, comment NTC 1 Ом
NTC; Tolerance: 5%; Alias: *
footprint NTC_PCM7.5
pins: 1, 2
text: -t°

## NTC_B57364S0109M0
designator RK?, comment B57364S0109M0
B57364-S109-M, 16 А, 1 Ом, NTC термистор; Manufacturer: EPCOS AG is a TDK; Power: 5Вт; Value: 1 Ω; Tolerance: 20%; Current: 16А; Alias: *
footprint NTC_PCM7.5
pins: 1, 2
text: -t°

## OP284
designator DA?  (value not drawn)
Alias: *
footprint SOIC-8
pins: 1 OUTA, 2 -INA, 3 +INA, 4 V-, 5 +INB, 6 -INB, 7 OUTB, 8 V+

## PLS-2
designator JP?
Tolerance: 5%; Alias: *
footprint PLS-2
pins: 1, 2

## PRAB31S
designator K?
Оптореле PRAB31S; Manufacturer: Протон Орел; Power: 0.3Вт; Value: 24 Ω; Voltage: 350В; Current: 0.12А; Note: КЕНС 431156.091 ТУ; Alias: *
footprint SOP-4 (PRAB31S)
pins: 1, 2, 3, 4

## PRAB37S
designator K?
Оптореле PRAB37S; Manufacturer: Протон Орел; Power: 0.2Вт; Value: 0.8 Ω; Voltage: 60В; Current: 0.35А; Note: КЕНС 431156.091 ТУ; Alias: *
footprint SOP-4 (PRAB31S)
pins: 1, 2, 3 S1, 4 S1'

## PRAC31S
designator K?
Оптореле сдвоенное PRAC31S; Manufacturer: Протон Орел; Power: 0.45Вт; Value: 24 Ω; Voltage: 350В; Current: 0.1А; Note: КЕНС 431156.091 ТУ; Alias: *
footprint SOP-8
pins: 1, 2, 3, 4, 5, 6, 7, 8

## R0805
designator R?, comment 1к
RC0805; Manufacturer: Yageo; Power: 0.125Вт; Tolerance: 5%; Voltage: 150В; Alias: *
footprint RESISTOR_0805
pins: 1, 2

## R1206
designator R?, comment 5,1к
RC1206; Tolerance: 5%; Voltage: 200; Alias: *
footprint RESISTOR_1206
pins: 1, 2

## R2512
designator R?, comment 1к
RC2512; Power: 1Вт; Tolerance: 5%; Voltage: 200; Alias: *
footprint RESISTOR_2512
pins: 1, 2

## Rezonator
designator BQ?
Tolerance: 5%; Alias: *
footprint HC49SMD
pins: 1, 2

## Rezonator_РК456МДУ
designator BQ?, comment РК456МДУ (ТМП)-5ДС-8000К-3(24 пФ)
Alias: *
footprint HC49SMD
pins: 1, 2

## SMBJ33A
designator VZ?
TVS Диод однонаправленный SMC; Tolerance: 5%; Alias: *
footprint SMB
pins: 1, 2

## SMBJ33CA
designator VZ?
TVS Диод двунаправленный SMB; Manufacturer: Vishay; Power: 600Вт; Tolerance: 5%; Voltage: 36.7-40.6В; Current: 11.3А; Note: Маркировка - MM; Alias: *
footprint SMB
pins: 1, 2

## SMCJ33A
designator VZ?
TVS Диод однонаправленный SMC; Tolerance: 5%; Alias: *
footprint SMC_DIOM6959X26N (Molded Diode, 2-Leads, Body 6,90x5,90mm, IPC Medium Density)
pins: 1, 2

## SMCJ33CA
designator VZ?
TVS Диод двунаправленный SMC; Tolerance: 5%; Alias: *
footprint SMC_DIOM6959X26N (Molded Diode, 2-Leads, Body 6,90x5,90mm, IPC Medium Density)
pins: 1, 2

## SMP75-8
designator VD?  (value not drawn)
Супрессор SMP75-8/SMB; Alias: *
footprint SMB
pins: 1, 2

## Switch
designator SB?
Tolerance: 5%; Alias: *
footprint TACT_SWITCH (KLS7)
pins: 1, 2

## Switch2
designator SB?, comment Switch  (value not drawn)
Switch2; Alias: *
footprint TACT_SWITCH (KLS7)
pins: 1, 2

## TL431/SOIC8
designator DA?
ИОН TL431 0,5Вт; Tolerance: 5%; Alias: *
footprint SOIC-8
pins: 1 Cathode, 2 Anode, 3 Anode, 6 Anode, 7 Anode, 8 Ref

## TL431/TO92
designator DA?
ИОН TL431 0,5Вт; Tolerance: 5%; Alias: *
footprint TO-92 (TO, Flat Index; 3 In-Line, Axial Leads; Body Dia. 4.5mm; Leads 0.51 x 0.48 mm (max))
pins: 1 Ref, 2 Anode, 3 Cathode

## TP
designator TP?, comment PLS1  (value not drawn)
Контрольная точка; Note: Контрольная точка; Alias: *
footprint PLS-1
pins: 1

## TPsmall
designator TP?  (value not drawn)
Контрольная точка; Note: Контрольная точка; Alias: *
footprint TPsmall
pins: 1

## USBLC6-2SC6
designator DA?
Very low capacitance ESD protection; Alias: *
footprint SOT-23-6
pins: 1 I/O1, 2 GND, 3 I/O2, 4 I/O2, 5 Vbus, 6 I/O1
text: *D

## XS
designator XS?  (value not drawn)
Просто круглая дырка нафиг; Alias: *
footprint XS
pins: XS

## ZXCT1084
designator DA?
Tolerance: 5%; Alias: *
footprint SOT-23-5 (SOT23, 5-Leads, Body 2,90x2,45mm, Pitch 0,95mm, IPC Medium Density)
pins: 1 0UT, 2 GND, 3 S+, 4 S-, 5 VCC
text: MON

## К452КП2
designator K?
Tolerance: 5%; Alias: *
footprint i4-pac
pins: 1, 2, 3, 4

## К452КП3П ОПТОРЕЛЕ
designator VD?, comment К452КП3П
2М420; Alias: *
footprint 452КП3П
pins: 1, 2, 3, 4

## К561ЛН1
designator DD?  (value not drawn)
Alias: *
footprint DIP16
pins: 1 3, 2 3, 3 1, 4 ~{DE2}, 5 1, 6 2, 7 2, 8 GND, 9 4, 10 4, 11 5, 12 ~{DE1}, 13 5, 14 6, 15 6, 16 Vcc

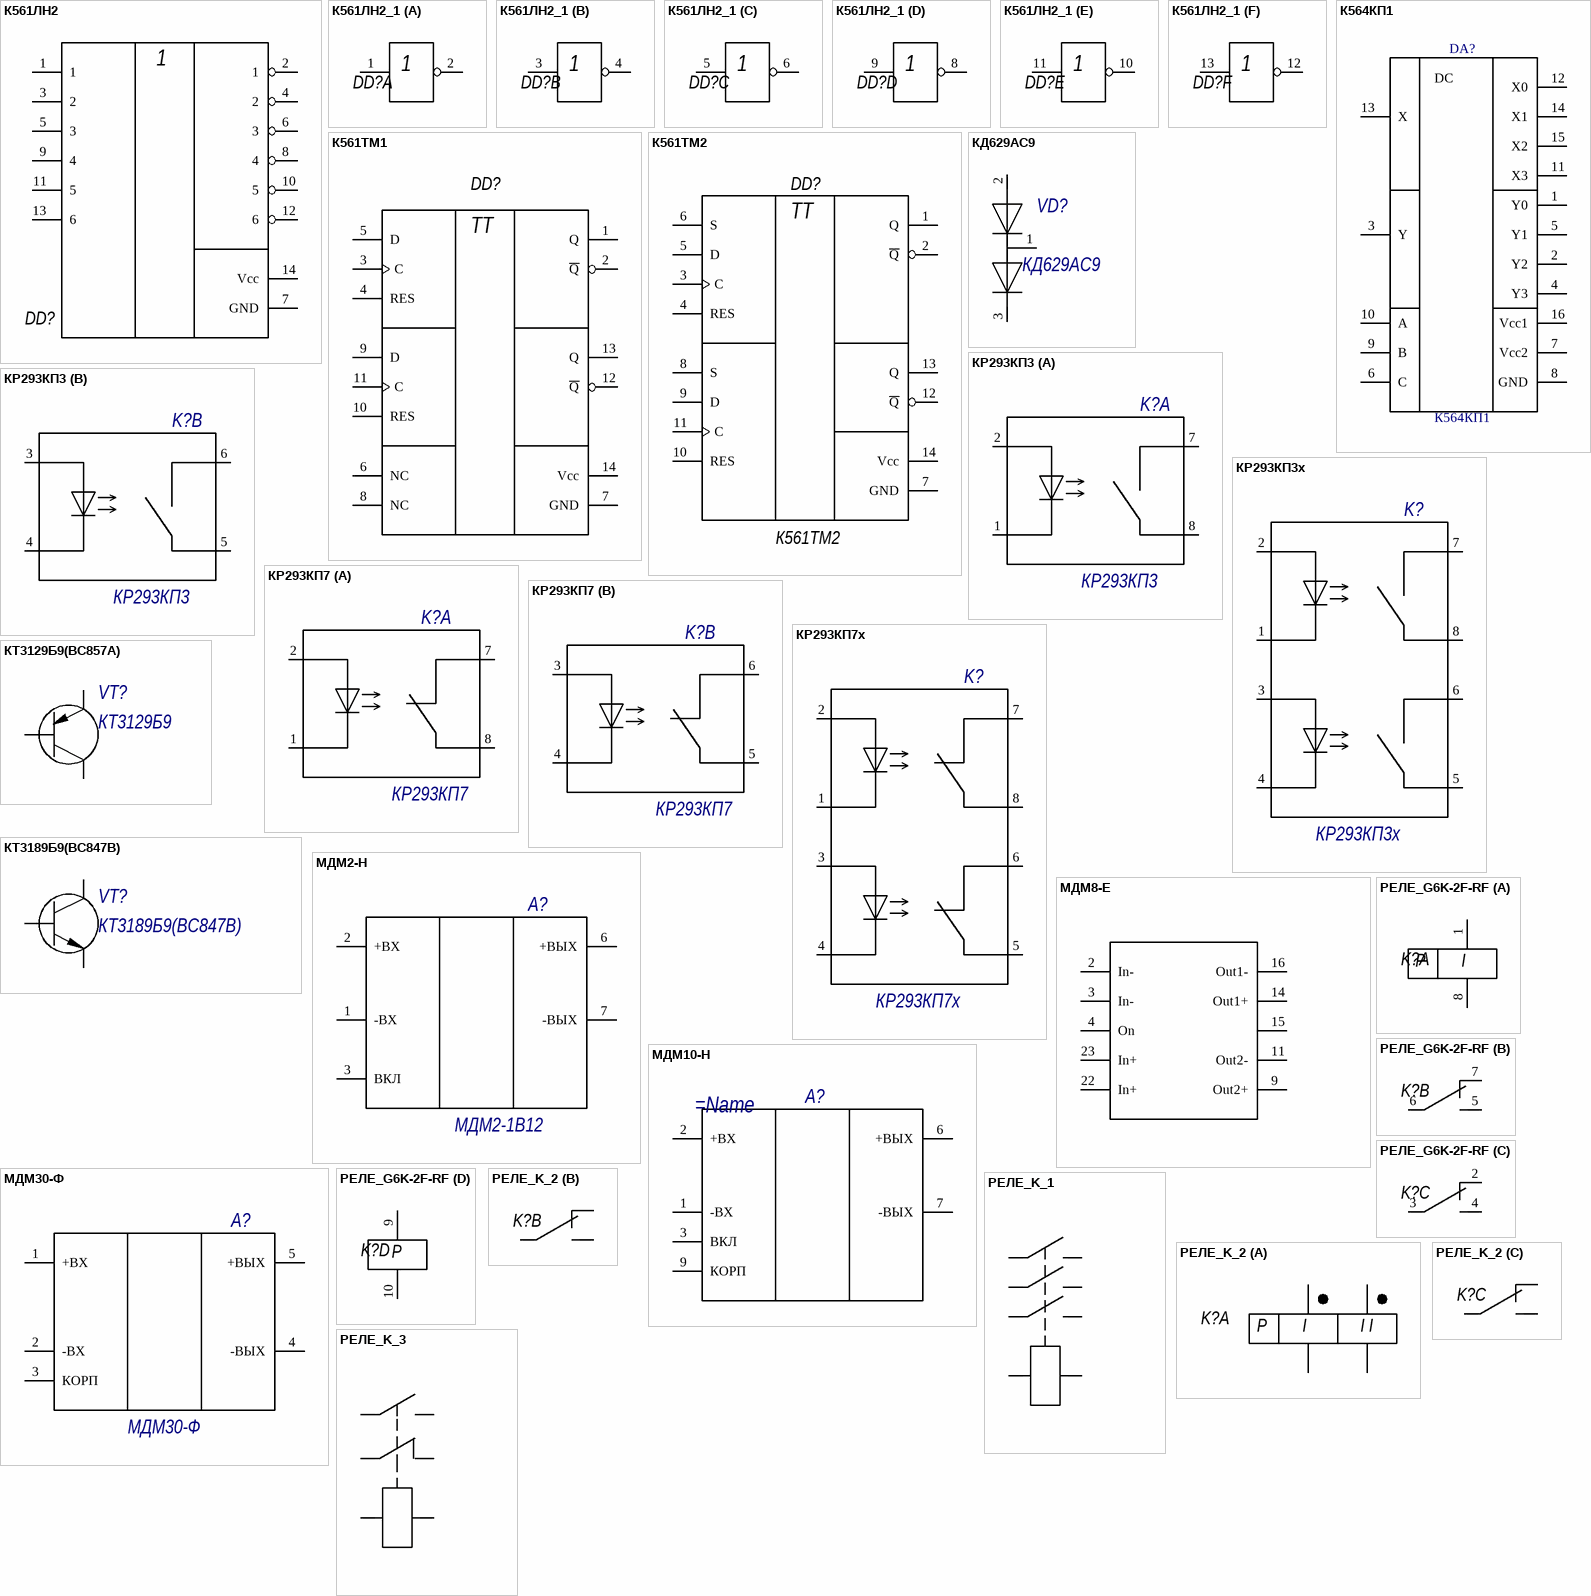
[diagram p5: symbols К561ЛН2 to РЕЛЕ_K_3]

## К561ЛН2
designator DD?  (value not drawn)
Alias: *
footprint DIP14
pins: 1, 2 1, 3 2, 4 2, 5 3, 6 3, 7 GND, 8 4, 9 4, 10 5, 11 5, 12 6, 13 6, 14 Vcc

## К561ЛН2_1
designator DD?, comment К561ЛН2  (value not drawn)
Alias: *
footprint DIP14
part A pins: 1, 2 1, 7 GND hidden to v-, 14 VCC hidden to v+
part B pins: 3 2, 4 2
part C pins: 5 3, 6 3
part D pins: 8 4, 9 4
part E pins: 10 5, 11 5
part F pins: 12 6, 13 6

## К561ТМ1
designator DD?  (value not drawn)
Alias: *
footprint DIP14
pins: 1 Q, 2 ~{Q}, 3 C, 4 RES, 5 D, 6 NC, 7 GND, 8 NC, 9 D, 10 RES, 11 C, 12 ~{Q}, 13 Q, 14 Vcc
text: TT

## К561ТМ2
designator DD?
Alias: *
footprint DIP14
pins: 1 Q, 2 ~{Q}, 3 C, 4 RES, 5 D, 6 S, 7 GND, 8 S, 9 D, 10 RES, 11 C, 12 ~{Q}, 13 Q, 14 Vcc
text: TT

## К564КП1
designator DA?
Alias: *
footprint ПМ 564КП1
pins: 1 Y0, 2 Y2, 3 Y, 4 Y3, 5 Y1, 6 C, 7 Vcc2 (power), 8 GND (power), 9 B, 10 A, 11 X3, 12 X0, 13 X, 14 X1, 15 X2, 16 Vcc1 (power)
text: DC

## КД629АС9
designator VD?
КД629АС9(BAV84); Manufacturer: Интеграл; Note: аАО.336.601 ТУ/02; Alias: *
footprint SOT-23-3
pins: 1, 2, 3

## КР293КП3
designator K?
Tolerance: 5%; Alias: *
footprint DIP-8
part A pins: 1, 2, 7, 8
part B pins: 3, 4, 5, 6

## КР293КП3х
designator K?
Tolerance: 5%; Alias: *
footprint DIP-8
pins: 1, 2, 3, 4, 5, 6, 7, 8

## КР293КП7
designator K?
Tolerance: 5%; Alias: *
footprint DIP-8
part A pins: 1, 2, 7, 8
part B pins: 3, 4, 5, 6

## КР293КП7х
designator K?
Tolerance: 5%; Alias: *
footprint DIP-8
pins: 1, 2, 3, 4, 5, 6, 7, 8

## КТ3129Б9(BC857A)
designator VT?, comment КТ3129Б9
КТ3129Б9(BC857A); Tolerance: 5%; Alias: *
footprint SOT-23-3
pins: 1, 2, 3

## КТ3189Б9(BC847B)
designator VT?
Tolerance: 5%; Alias: *
footprint SOT-23-3
pins: 1, 2, 3

## МДМ2-Н
designator A?, comment МДМ2-1В12
МДМ2-Н; Tolerance: 5%; Alias: *
footprint SIP-8
pins: 1 -ВХ, 2 +ВХ, 3 ВКЛ, 6 +ВЫХ, 7 -ВЫХ

## МДМ8-Е
designator A?
DC/DC с широким входным напряжением; Alias: *
footprint МДМ8-Е (DC/DC с широким входным напряжением)
pins: 2 In-, 3 In-, 4 On, 9 Out2+, 11 Out2-, 14 Out1+, 15 NC, 16 Out1-, 22 In+, 23 In+

## МДМ10-Н
designator A?
2: МДМ10-1Б3,3СН; 1: МДМ10-1Б05СН; Alias: *
footprint SIP-8
pins: 1 -ВХ, 2 +ВХ, 3 ВКЛ, 6 +ВЫХ, 7 -ВЫХ, 9 КОРП

## МДМ30-Ф
designator A?
Tolerance: 5%; Alias: *
footprint МДМ30-Ф (DC/DC Кконвертор)
pins: 1 +ВХ, 2 -ВХ, 3 КОРП, 4 -ВЫХ, 5 +ВЫХ

## РЕЛЕ_G6K-2F-RF
designator K?, comment G6K-2F-RF  (value not drawn)
Alias: *
footprint G6K-2F-RF
part A pins: 1, 8
part B pins: 5, 6, 7
part C pins: 2, 3, 4
part D pins: 9, 10
part A text: Р; I
part D text: Р

## РЕЛЕ_K_1
designator K?
Alias: *
pins: 1, 2, 3, 4, 5, 6, 7, 8

## РЕЛЕ_K_2
designator K?  (value not drawn)
Реле 2 обмотки; Alias: *
part A pins: 1, 5, 6, 10
part B pins: 2, 3, 4
part C pins: 7, 8, 9
part A text: Р; I

## РЕЛЕ_K_3
designator K?
Alias: *
pins: 1, 2, 3, 4, 7, 8

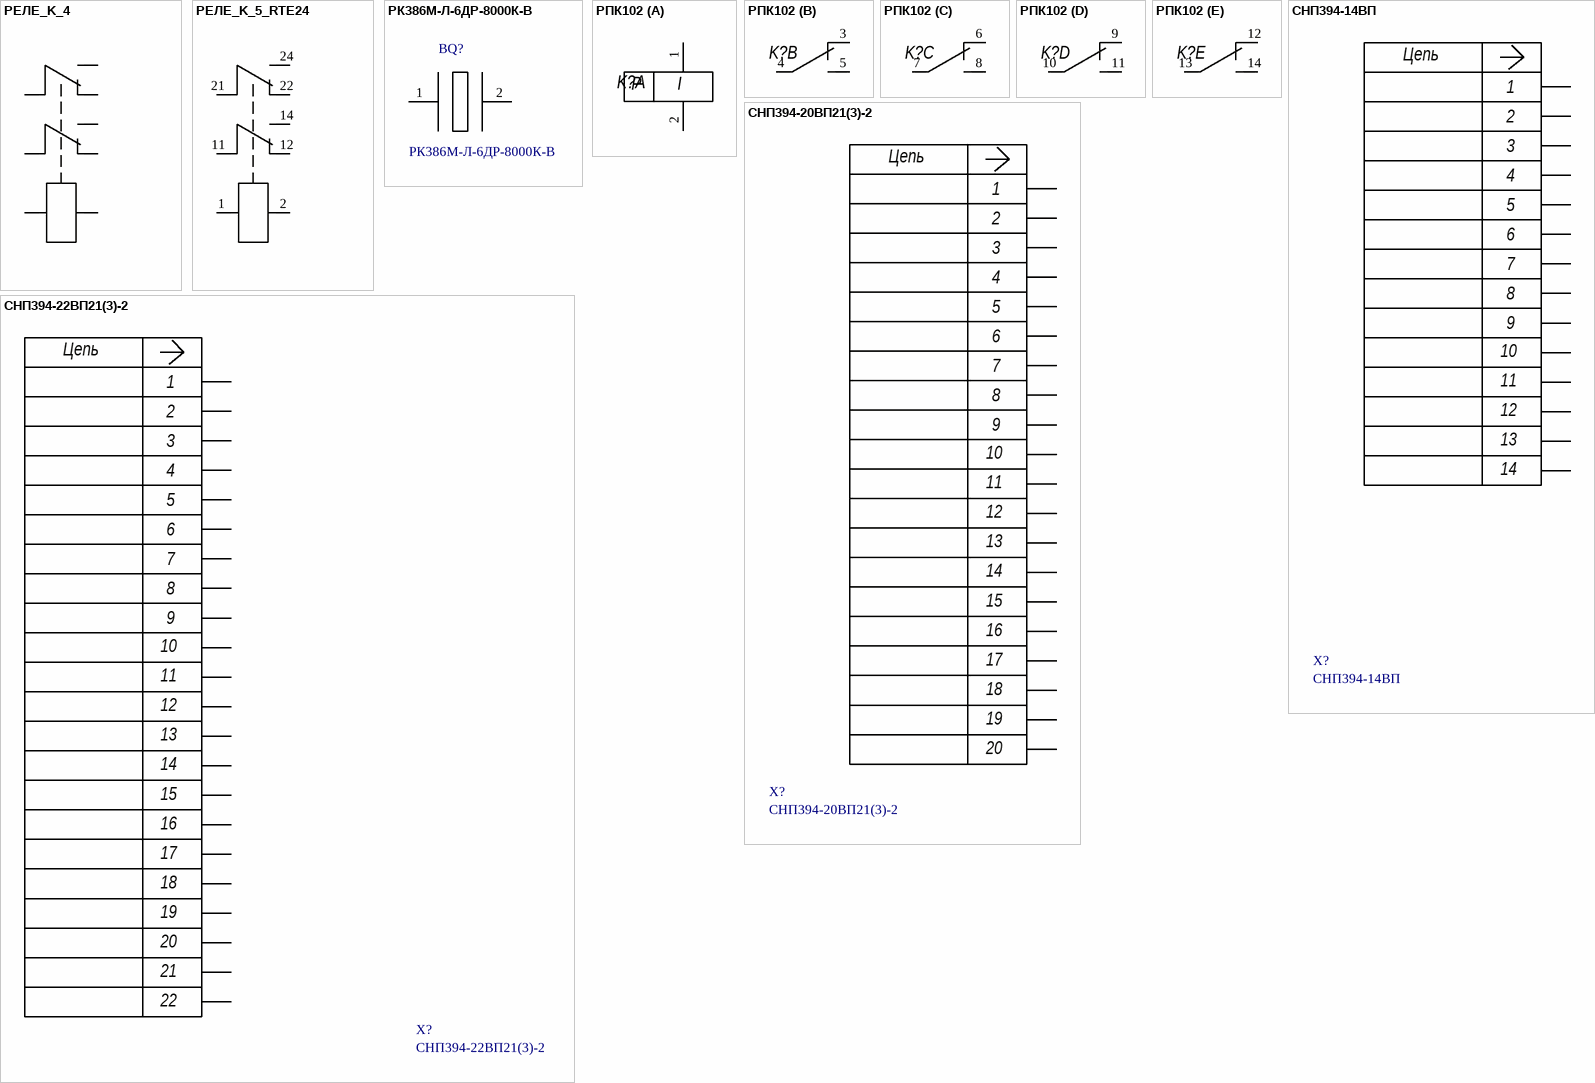
[diagram p6: symbols РЕЛЕ_K_4 to СНП394-22ВП21(3)-2]

## РЕЛЕ_K_4
designator K?, comment РЭС-80
Alias: *
footprint РЭС80 (Реле)
pins: 1, 2, 11, 12, 13, 21, 22, 23

## РЕЛЕ_K_5_RTE24
designator K?, comment RTE24005
Alias: *
footprint RTE24005 (РЕЛЕ)
pins: 1 A1, 2 A2, 11, 12, 14, 21, 22, 24

## РК386М-Л-6ДР-8000К-В
designator BQ?
Alias: *
footprint РКМ386М-П-6ДР-8000К-В (Резонатор пьезоэлектрический миниатюрный РКМ386М)
pins: 1, 2

## РПК102
designator K?  (value not drawn)
Alias: *
footprint РПК102 (Реле)
part A pins: 1 А, 2 B
part B pins: 3 11, 4 12, 5 13
part C pins: 6 21, 7 22, 8 23
part D pins: 9 31, 10 32, 11 33
part E pins: 12 41, 13 42, 14 43
part A text: Р; I

## СНП394-14ВП
designator X?
СНП394-14ВП21(3)-2 ШАГ 2.54; Alias: *
footprint МП СНП394-14ВП21(3)-2
pins: 1, 2, 3, 4, 5, 6, 7, 8, 9, 10, 11, 12, 13, 14
text: Цепь

## СНП394-20ВП21(3)-2
designator X?
СНП394-20ВП21(3)-2  шаг 2.54; Alias: *
footprint МП СНП394-20ВП21(3)-2
pins: 1, 2, 3, 4, 5, 6, 7, 8, 9, 10, 11, 12, 13, 14, 15, 16, 17, 18, 19, 20
text: Цепь

## СНП394-22ВП21(3)-2
designator X?
СНП394-22ВП21(3)-2  шаг 2.54; Alias: *
footprint ПМ СНП394-22ВП21(3)-2
pins: 1, 2, 3, 4, 5, 6, 7, 8, 9, 10, 11, 12, 13, 14, 15, 16, 17, 18, 19, 20, 21, 22
text: Цепь

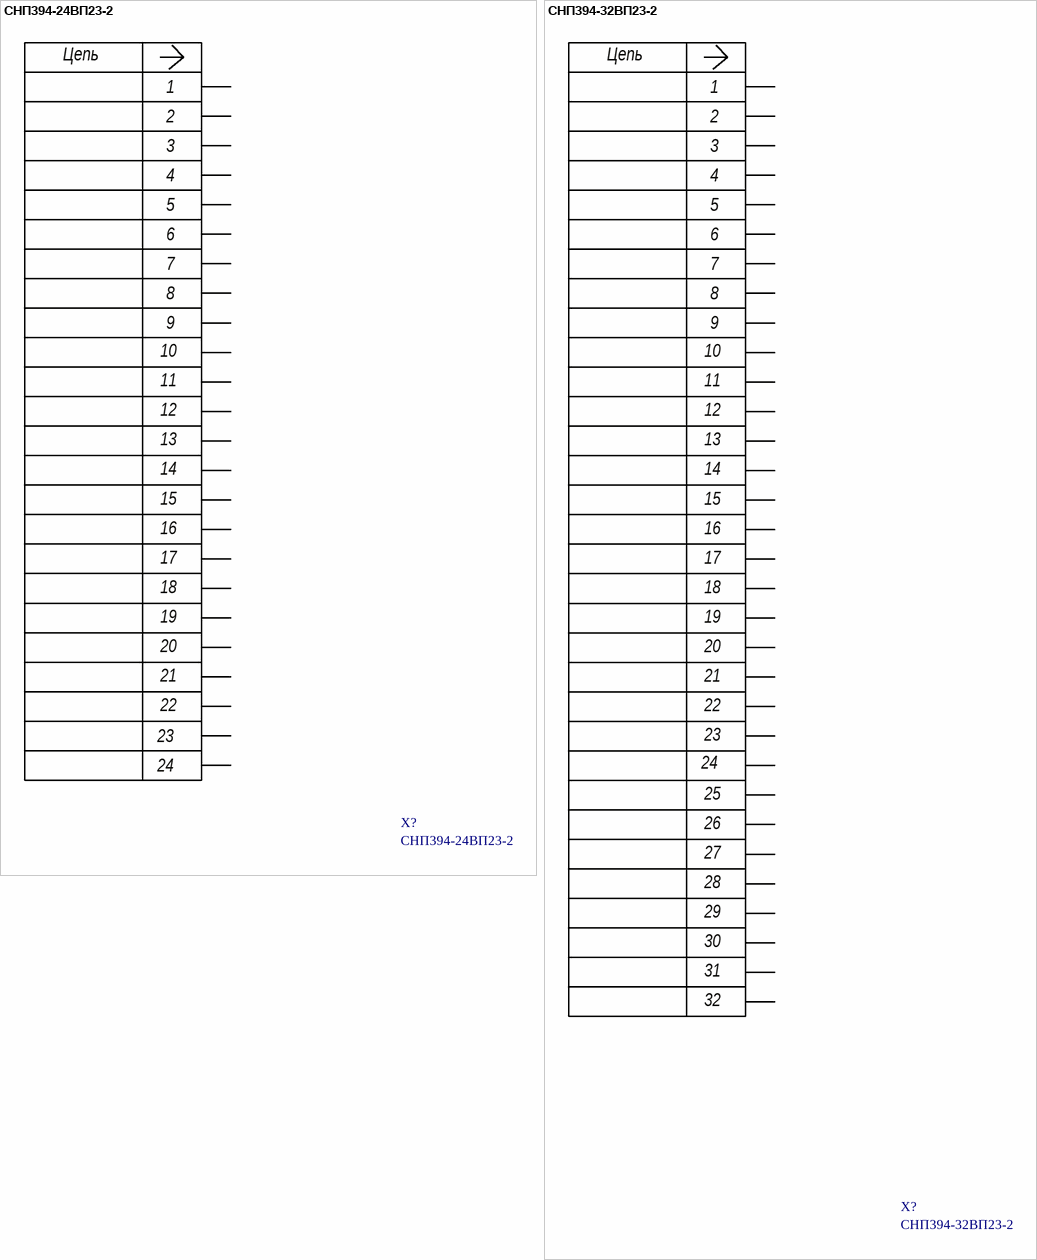
[diagram p7: symbols СНП394-24ВП23-2 to СНП394-32ВП23-2]

## СНП394-24ВП23-2
designator X?
Alias: *
footprint ПМ СНП394-24ВП23-2
pins: 1, 2, 3, 4, 5, 6, 7, 8, 9, 10, 11, 12, 13, 14, 15, 16, 17, 18, 19, 20, 21, 22, 23, 24
text: Цепь

## СНП394-32ВП23-2
designator X?
Alias: *
footprint ПМ СНП39432ВП23-2
pins: 1, 2, 3, 4, 5, 6, 7, 8, 9, 10, 11, 12, 13, 13, 14, 14, 15, 15, 16, 16, 17, 17, 18, 18, 19, 19, 20, 20, 21, 21, 22, 23
text: Цепь; 24; 25; 26; 27; 28; 29; 30; 31; 32